# Altium schematic symbol library Environment Sensors.SchLib: 1 symbol
Pins are listed as number, name and electrical type; pins without a type are passive.

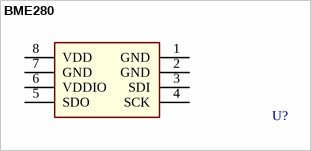
[diagram p0: symbol BME280]

## BME280
designator U?  (value not drawn)
Humidity Temperature Sensor 0 ~ 100% RH I²C, SPI ±3% 1s Surface Mount; Manufacturer 1: Bosch Sensortec; ComponentLink1Description: Datasheet; ComponentLink1URL: https://ae-bst.resource.bosch.com/media/_tech/media/datasheets/BST-BME280-DS002.pdf; Mouser PN: 262-BME280; Digikey PN: 828-1063-1-ND; Manufacturer 1 PN: BME280
footprint BME280 (Humidity Temperature Sensor 0 ~ 100% RH I²C, SPI ±3% 1s Surface Mount)
pins: 1 GND, 2 GND, 3 SDI, 4 SCK, 5 SDO, 6 VDDIO, 7 GND, 8 VDD